# EAGLE library part PICO-SPOX-6 (library controller)
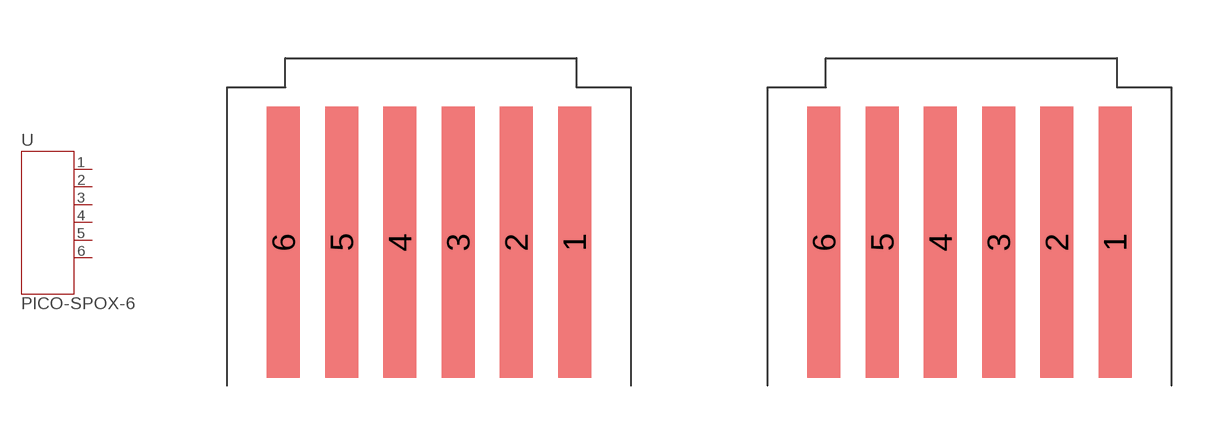
[diagram p13: symbol with the pads of PICO-SPOX-SMT-RA-6; footprints PICO-SPOX-SMT-RA-6, PICO-SPOX-SMT-RA-6-NOPASTE]

Designator prefix -

## PICO-SPOX-6  [PICO-SPOX-SMT-RA-6]
1  1  pas
2  2  pas
3  3  pas
4  4  pas
5  5  pas
6  6  pas

## PICO-SPOX-6NOPASTE  [PICO-SPOX-SMT-RA-6-NOPASTE]
Pads as for PICO-SPOX-SMT-RA-6

## Footprint PICO-SPOX-SMT-RA-6 (pad centres in mm)
smd 0.85 x 7: 1 3.75,0; 2 2.25,0; 3 0.75,0; 4 -0.75,0; 5 -2.25,0; 6 -3.75,0

## Footprint PICO-SPOX-SMT-RA-6-NOPASTE (pad centres in mm)
smd 0.85 x 7: 1 3.75,0; 2 2.25,0; 3 0.75,0; 4 -0.75,0; 5 -2.25,0; 6 -3.75,0